# Altium schematic symbol library Relay_30A_27.6x32mm 1.SchLib: 1 symbol
Pins are listed as number, name and electrical type; pins without a type are passive.

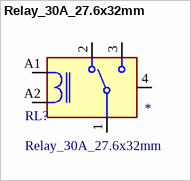
[diagram p0: symbol Relay_30A_27.6x32mm]

## Relay_30A_27.6x32mm
designator RL?
5V 30A Normal Open:1A (SPST-Normal Open) 4 Plugin,27.6x32mm Power Relays ROHS; LCSC: *
footprint Relay_30A_27.6x32mm
pins: 1 COM, 2 NC, 3 NO, 4, A1 COIL_1, A2 COIL_2